# Altium footprint library Mounting Bracket.PcbLib: 4 footprints
Each footprint in its own frame and in the unit in brackets; x right, y up, seen from the top. Pads: shape width x height; smd on the part's side, far side on the other; paste and mask are expansions set on the pad; w line width, h text height; cw(c..) or ccw(c..) is an arc to the next point about the centre after c.
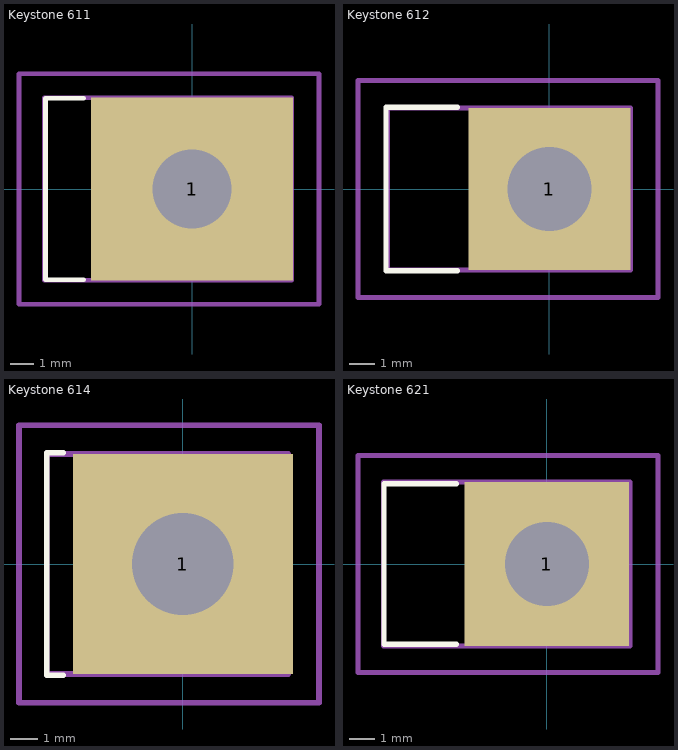
[diagram p0: the footprints below, top view; thin cyan lines are the x and y axes]

## Keystone 611 [mm]
height 9.52
pads (1):
  rect 8.74x7.92 hole 3.43: 1(0,0)
Top Overlay:
  lines w0.2: -4.699,-3.937 -6.35,-3.937 -6.35,3.937 -4.699,3.937
Mechanical 1:
  lines w0.2: -6.402,-3.96 -6.402,3.96 4.318,3.96 4.318,-3.96 -6.402,-3.96
Mechanical 15:
  lines w0.2: -1,0 1,0 ; 0,-1 0,1 ; -7.5,-5 5.5,-5 5.5,5 -7.5,5 -7.5,-5
3D body "Keystone 611.STEP": height 9.52, standoff 0, extent -6.402,-3.96 4.318,3.96

## Keystone 612 [mm]
height 8.71
pads (1):
  rect 6.35x6.35 hole 3.3: 1(0,0)
Top Overlay:
  lines w0.2: -3.6,-3.2 -6.4,-3.2 -6.4,3.2 -3.6,3.2
Mechanical 1:
  lines w0.2: -6.35,-3.175 -6.35,3.175 3.18,3.175 3.18,-3.175 -6.35,-3.175
Mechanical 15:
  lines w0.2: -1,0 1,0 ; 0,-1 0,1 ; -7.5,-4.25 -7.5,4.25 4.25,4.25 4.25,-4.25 -7.5,-4.25
3D body "Keystone 612.STEP": height 8.71, standoff 0, extent -6.35,-3.175 3.18,3.175

## Keystone 614 [mm]
height 10.67
pads (1):
  rect 7.92x7.92 hole 3.66: 1(0,0)
Top Overlay:
  lines w0.2: -4.3,-4 -4.9,-4 -4.9,4 -4.3,4
Mechanical 1:
  lines w0.2: -4.9,-3.96 -4.9,3.96 3.8,3.96 3.8,-3.96 -4.9,-3.96
Mechanical 15:
  lines w0.2: -1,0 1,0 ; 0,-1 0,1 ; -5.9,-5 4.9,-5 4.9,5 -5.9,5 -5.9,-5
3D body "Keystone 614.STEP": height 10.66, standoff 0, extent -4.93,-3.96 3.774,3.96

## Keystone 621 [mm]
height 8.71
pads (1):
  rect 6.35x6.35 hole 3.25: 1(0,0)
Top Overlay:
  lines w0.2: -3.5,-3.1 -6.3,-3.1 -6.3,3.1 -3.5,3.1
Mechanical 1:
  lines w0.2: -6.3,-3.175 -6.312,-3.175 ; -6.312,-3.175 -6.312,3.175 3.218,3.175 3.218,-3.175 -6.312,-3.175
Mechanical 15:
  lines w0.2: -1,0 1,0 ; 0,-1 0,1 ; -7.3,-4.2 4.3,-4.2 4.3,4.2 -7.3,4.2 -7.3,-4.2
3D body "Keystone 621.STEP": height 8.71, standoff 0, extent -6.312,-3.175 3.218,3.175